# EAGLE library part LM358N (library IC)
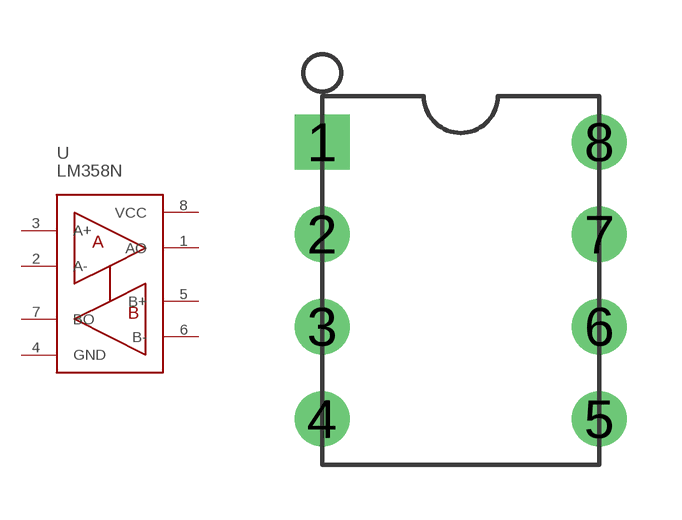
[diagram p60: symbol with the pads of DIP08; footprint DIP08]

Designator prefix U

## LM358N-DIP08  [DIP08]
1  AO
2  A-
3  A+
4  GND
5  B+
6  B-
7  BO
8  VCC

## Footprint DIP08 (pad centres in mm)
drill 0.813 pad 1.524 square: 1 -3.81,3.81
drill 0.813 pad 1.524: 2 -3.81,1.27; 3 -3.81,-1.27; 4 -3.81,-3.81; 5 3.81,-3.81; 6 3.81,-1.27; 7 3.81,1.27; 8 3.81,3.81